# Altium footprint library PcbLib2.PcbLib: 13 footprints
Each footprint in its own frame and in the unit in brackets; x right, y up, seen from the top. Pads: shape width x height; smd on the part's side, far side on the other; paste and mask are expansions set on the pad; w line width, h text height; cw(c..) or ccw(c..) is an arc to the next point about the centre after c.
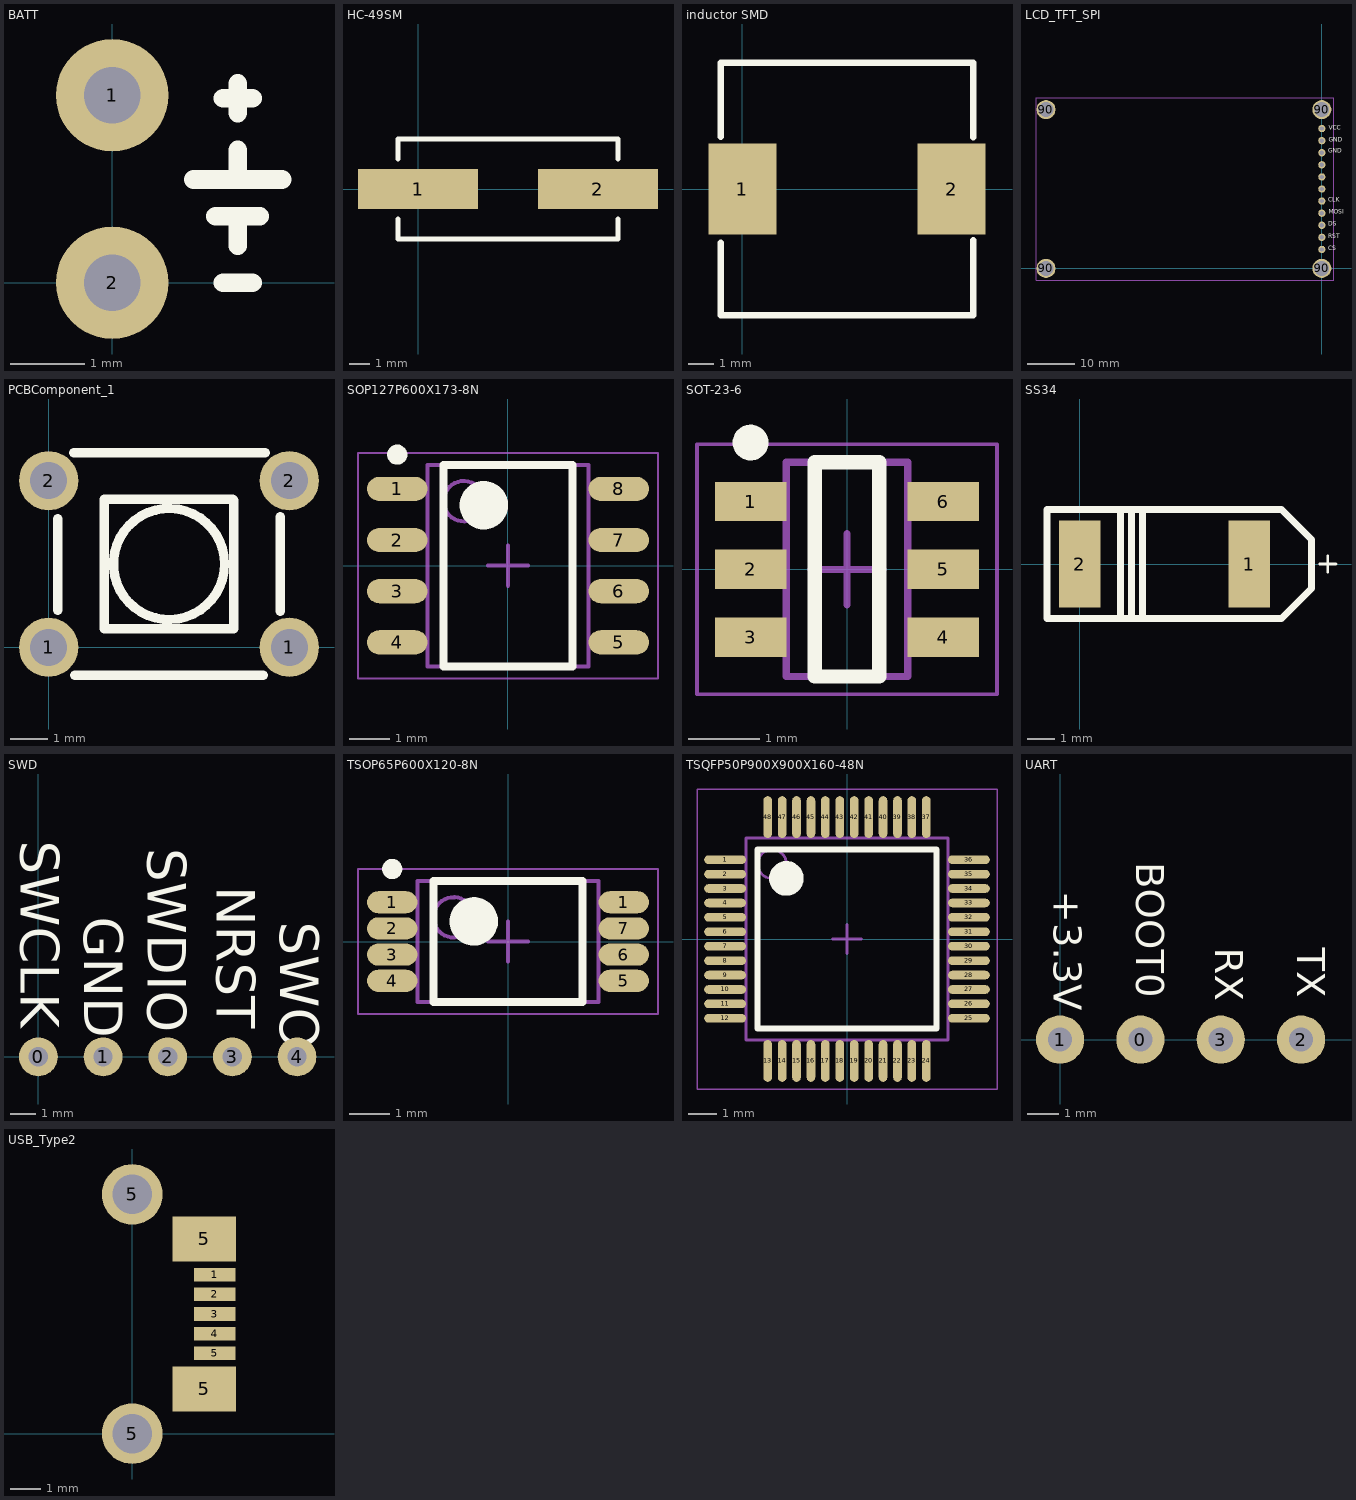
[diagram p0: the footprints below, top view; thin cyan lines are the x and y axes]

## BATT [mil]
pads (2):
  round 60 hole 30: 1(0,100) 2(0,0)
Top Overlay:
  lines w10: 43.31,55.12 90.55,55.12 ; 55.12,35.43 78.74,35.43 ; 59.06,0 74.8,0 ; 59.06,98.43 74.8,98.43 ; 66.93,19.68 66.93,35.43 ; 66.93,55.12 66.93,70.87 ; 66.93,90.55 66.93,106.3

## HC-49SM [mm]
pads (2):
  rect 6x2 smd: 1(0,0) 2(9,0)
Top Overlay:
  lines w0.254: -1,-1.5 -1,-2.5 10,-2.5 10,-1.5 ; -1,1.5 -1,2.5 10,2.5 10,1.5

## inductor SMD [mm]
pads (2):
  rect 2.7x3.6 smd: 1(0,0) 2(8.3,0)
Top Overlay:
  lines w0.254: -0.85,-2.125 -0.85,-5 4.15,-5 9.15,-5 9.15,-2.025 ; -0.85,2.075 -0.85,5 4.15,5 9.15,5 9.15,2.05

## LCD_TFT_SPI [mm]
pads (15):
  round 1.524 hole 0.9: 1(0,29.4) 2(0,24.32) 2(0,26.86) 3(0,14.16) 4(0,11.62) 5(0,9.08) 6(0,6.54) 7(0,4) 10(0,16.7) 10(0,19.24) 87(0,21.78)
  round 4 hole 3.1 unplated: 90(-58,0) 90(-58,33.4) 90(0,0) 90(0,33.4)
Top Overlay:
  text "VCC" at 1.4,28.825 h1.52
  text "GND" at 1.45,26.325 h1.52
  text "GND" at 1.3,23.975 h1.52
  text "CLK" at 1.375,13.725 h1.52
  text "MOSI" at 1.425,11.2 h1.52
  text "DS" at 1.3,8.65 h1.52
  text "RST" at 1.325,6.05 h1.52
  text "CS" at 1.325,3.55 h1.52
Mechanical 1:
  lines w0.254: -60.1,-2.45 2.5,-2.45 2.5,16.4 2.5,35.85 -60.1,35.85 -60.1,-2.45

## PCBComponent_1 [mm]
pads (4):
  round 1.6 hole 1: 1(0,0) 1(6.5,0) 2(0,4.5) 2(6.5,4.5)
Top Overlay:
  circle w0.254: c3.25,2.25 r1.5
  lines w0.254: 0.25,1 0.25,2.25 0.25,3.475 ; 0.675,5.25 3.25,5.25 5.85,5.25 ; 0.7,-0.75 3.25,-0.75 5.8,-0.75 ; 6.25,0.975 6.25,2.25 6.25,3.525 ; 1.5,0.5 1.5,1.875 1.5,2.187 1.5,2.312 1.5,3.125 1.5,4 4.972,4 5,3.972 5,0.5 1.5,0.5

## SOP127P600X173-8N [mm] "SOP, 8-Leads, Body 4,90x3,91mm, Pitch 1,27mm, IPC Medium Density"
height 1.73
pads (8):
  oval 1.5x0.6 smd: 1(-2.75,1.905) 2(-2.75,0.635) 3(-2.75,-0.635) 4(-2.75,-1.905) 5(2.75,-1.905) 6(2.75,-0.635) 7(2.75,0.635) 8(2.75,1.905)
Top Overlay:
  circle w0.25: c-2.75,2.755 r0.125
  circle w0.6: c-0.6,1.5 r0.3
  lines w0.2: -1.6,-2.5 -1.6,2.5 1.6,2.5 1.6,-2.5 -1.6,-2.5
Mechanical 13:
  circle w0.1: c-1.1,1.6 r0.5
  lines w0.1: -2,-2.5 -2,2.5 2,2.5 2,-2.5 -2,-2.5
Mechanical 15:
  lines w0.05: -3.725,-2.8 -3.725,2.8 3.725,2.8 3.725,-2.8 -3.725,-2.8
  lines w0.1: -0.5,0 0.5,0 ; 0,-0.5 0,0.5
3D body: height 1.73, standoff 0.03, extent -2,-2.5 2,2.5

## SOT-23-6 [mm] "SOT23, 6-Leads, Body 2,85x2,80mm, Pitch 0,95mm, IPC Medium Density"
height 1.35
pads (6):
  rect 1x0.55 smd: 1(-1.35,0.95) 2(-1.35,0) 3(-1.35,-0.95) 4(1.35,-0.95) 5(1.35,0) 6(1.35,0.95)
Top Overlay:
  circle w0.25: c-1.35,1.775 r0.125
  lines w0.2: -0.45,-1.5 0.45,-1.5 0.45,1.5 -0.45,1.5 -0.45,-1.5
Mechanical 13:
  lines w0.1: -0.85,-1.5 -0.85,1.5 0.85,1.5 0.85,-1.5 -0.85,-1.5
Mechanical 15:
  lines w0.05: -2.1,-1.75 -2.1,1.75 2.1,1.75 2.1,-1.75 -2.1,-1.75
  lines w0.1: -0.5,0 0.5,0 ; 0,-0.5 0,0.5
3D body: height 1.35, standoff 0.05, extent -0.85,-1.5 0.85,1.5

## SS34 [mm]
pads (2):
  rect 1.52x3.2 smd: 1(6.225,0) 2(0,0)
Top Overlay:
  lines w0.1: 8.8,0 9.4,0 ; 9.1,-0.3 9.1,0 9.1,0.3
  lines w0.254: 1.5,-2 1.5,2 ; 1.9,-2 1.9,2 ; 2.3,-2 2.3,2 ; -1.2,-2 -1.2,1.6 -1.2,2 7.4,2 8.5,0.9 8.5,-0.9 7.4,-2 -1.2,-2

## SWD [mil]
pads (5):
  round 60 hole 30: 0(0,0) 1(100,0) 2(200,0) 3(300,0) 4(400,0)
Top Overlay:
  text "SWCLK" at -27.56,334.65 h60
  text "GND" at 70.87,216.54 h60
  text "SWDIO" at 169.29,322.83 h60
  text "NRST" at 275.59,263.78 h60
  text "SWO" at 374.02,208.66 h60

## TSOP65P600X120-8N [mm] "TSOP, 8-Leads, Body 2,93x4,40mm, Pitch 0,65mm, IPC Medium Density"
height 1.2
pads (8):
  oval 1.25x0.55 smd: 1(-2.875,0.975) 1(2.875,0.975) 2(-2.875,0.325) 3(-2.875,-0.325) 4(-2.875,-0.975) 5(2.875,-0.975) 6(2.875,-0.325) 7(2.875,0.325)
Top Overlay:
  circle w0.6: c-0.85,0.5 r0.3
  circle w0.25: c-2.875,1.8 r0.125
  lines w0.2: -1.85,-1.5 1.85,-1.5 1.85,1.5 -1.85,1.5 -1.85,-1.5
Mechanical 13:
  circle w0.1: c-1.35,0.6 r0.5
  lines w0.1: -2.25,-1.5 2.25,-1.5 2.25,1.5 -2.25,1.5 -2.25,-1.5
Mechanical 15:
  lines w0.05: -3.725,-1.8 3.725,-1.8 3.725,1.8 -3.725,1.8 -3.725,-1.8
  lines w0.1: -0.5,0 0.5,0 ; 0,-0.5 0,0.5
3D body: height 1.2, standoff 0.05, extent -2.25,-1.5 2.25,1.5

## TSQFP50P900X900X160-48N [mm] "TSQFP, 48-Leads, Body 7,00x7,00mm, Pitch 0,50mm, IPC Medium Density"
height 1.6
pads (48):
  oval 1.45x0.3 smd: 1(-4.225,2.75) 2(-4.225,2.25) 3(-4.225,1.75) 4(-4.225,1.25) 5(-4.225,0.75) 6(-4.225,0.25) 7(-4.225,-0.25) 8(-4.225,-0.75) 9(-4.225,-1.25) 10(-4.225,-1.75) 11(-4.225,-2.25) 12(-4.225,-2.75) 25(4.225,-2.75) 26(4.225,-2.25) 27(4.225,-1.75) 28(4.225,-1.25) 29(4.225,-0.75) 30(4.225,-0.25) 31(4.225,0.25) 32(4.225,0.75) 33(4.225,1.25) 34(4.225,1.75) 35(4.225,2.25) 36(4.225,2.75)
  oval 0.3x1.45 smd: 13(-2.75,-4.225) 14(-2.25,-4.225) 15(-1.75,-4.225) 16(-1.25,-4.225) 17(-0.75,-4.225) 18(-0.25,-4.225) 19(0.25,-4.225) 20(0.75,-4.225) 21(1.25,-4.225) 22(1.75,-4.225) 23(2.25,-4.225) 24(2.75,-4.225) 37(2.75,4.225) 38(2.25,4.225) 39(1.75,4.225) 40(1.25,4.225) 41(0.75,4.225) 42(0.25,4.225) 43(-0.25,4.225) 44(-0.75,4.225) 45(-1.25,4.225) 46(-1.75,4.225) 47(-2.25,4.225) 48(-2.75,4.225)
Top Overlay:
  circle w0.6: c-2.1,2.1 r0.3
  lines w0.2: -3.1,-3.1 3.1,-3.1 3.1,3.1 -3.1,3.1 -3.1,-3.1
Mechanical 13:
  circle w0.1: c-2.6,2.6 r0.5
  lines w0.1: -3.5,-3.5 3.5,-3.5 3.5,3.5 -3.5,3.5 -3.5,-3.5
Mechanical 15:
  lines w0.05: -5.2,-5.2 5.2,-5.2 5.2,5.2 -5.2,5.2 -5.2,-5.2
  lines w0.1: -0.5,0 0.5,0 ; 0,-0.5 0,0.5
3D body: height 1.6, standoff 0.05, extent -3.5,-3.5 3.5,3.5

## UART [mil]
pads (4):
  round 60 hole 30: 0(100,0) 1(0,0) 2(300,0) 3(200,0)
Top Overlay:
  text "BOOT0" at 82.68,220.47 h60
  text "+3.3V" at -19.68,185.04 h60
  text "TX" at 283.46,114.17 h60
  text "RX" at 181.1,114.17 h60

## USB_Type2 [mm]
pads (9):
  rect 1.38x0.45 smd: 1(2.725,5.25) 2(2.725,4.6) 3(2.725,3.95) 4(2.725,3.3) 5(2.725,2.65)
  round 2 hole 1.3 unplated: 5(0,0) 5(0,7.9)
  rect 2.1x1.475 smd: 5(2.375,1.475) 5(2.375,6.425)